# EAGLE library part ADUM-3220 (library zz-upenn)
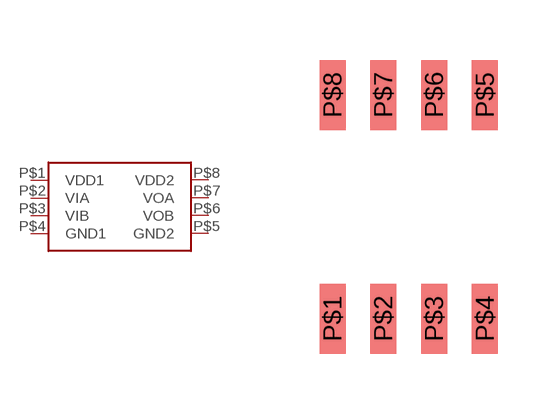
[diagram p32: symbol with the pads of SOIC-8; footprint SOIC-8]

Designator prefix -

## ADUM-3220  [SOIC-8]
P$1  VDD1
P$2  VIA
P$3  VIB
P$4  GND1
P$5  GND2
P$6  VOB
P$7  VOA
P$8  VDD2

## Footprint SOIC-8 (pad centres in mm)
smd 0.65 x 1.75: P$1 -1.905,-2.8; P$2 -0.635,-2.8; P$3 0.635,-2.8; P$4 1.905,-2.8; P$5 1.905,2.8; P$6 0.635,2.8; P$7 -0.635,2.8; P$8 -1.905,2.8